# Altium schematic symbol library Schlib1.SchLib: 19 symbols
Pins are listed as number, name and electrical type; pins without a type are passive.

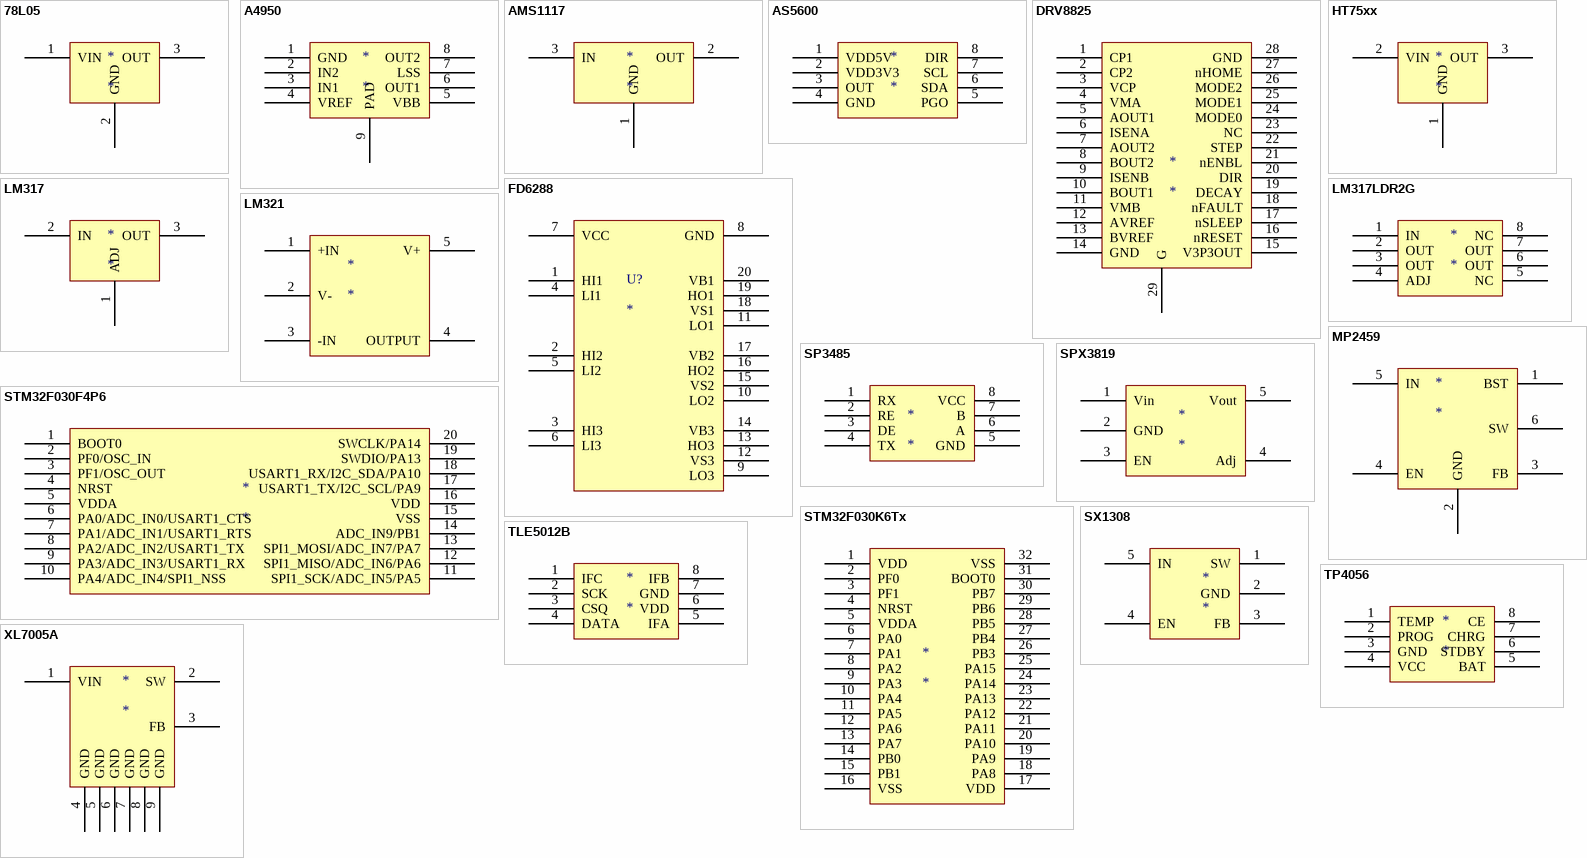
[diagram p0: symbols 78L05 to XL7005A]

## 78L05
designator *
pins: 1 VIN, 2 GND, 3 OUT

## A4950
designator *
pins: 1 GND, 2 IN2, 3 IN1, 4 VREF, 5 VBB, 6 OUT1, 7 LSS, 8 OUT2, 9 PAD

## AMS1117
designator *
pins: 1 GND, 2 OUT, 3 IN

## AS5600
designator *
pins: 1 VDD5V, 2 VDD3V3, 3 OUT, 4 GND, 5 PGO, 6 SDA, 7 SCL, 8 DIR

## DRV8825
designator *
pins: 1 CP1, 2 CP2, 3 VCP, 4 VMA, 5 AOUT1, 6 ISENA, 7 AOUT2, 8 BOUT2, 9 ISENB, 10 BOUT1, 11 VMB, 12 AVREF, 13 BVREF, 14 GND, 15 V3P3OUT, 16 nRESET, 17 nSLEEP, 18 nFAULT, 19 DECAY, 20 DIR, 21 nENBL, 22 STEP, 23 NC, 24 MODE0, 25 MODE1, 26 MODE2, 27 nHOME, 28 GND, 29 G

## FD6288
designator U?
pins: 1 HI1, 2 HI2, 3 HI3, 4 LI1, 5 LI2, 6 LI3, 7 VCC, 8 GND, 9 LO3, 10 LO2, 11 LO1, 12 VS3, 13 HO3, 14 VB3, 15 VS2, 16 HO2, 17 VB2, 18 VS1, 19 HO1, 20 VB1

## HT75xx
designator *
pins: 1 GND, 2 VIN, 3 OUT

## LM317
designator *
pins: 1 ADJ, 2 IN, 3 OUT

## LM317LDR2G
designator *
pins: 1 IN, 2 OUT, 3 OUT, 4 ADJ, 5 NC, 6 OUT, 7 OUT, 8 NC

## LM321
designator *
pins: 1 +IN, 2 V-, 3 -IN, 4 OUTPUT, 5 V+

## MP2459
designator *
pins: 1 BST, 2 GND, 3 FB, 4 EN, 5 IN, 6 SW

## SP3485
designator *
pins: 1 RX, 2 RE, 3 DE, 4 TX, 5 GND, 6 A, 7 B, 8 VCC

## SPX3819
designator *
pins: 1 Vin, 2 GND, 3 EN, 4 Adj, 5 Vout

## STM32F030F4P6
designator *
pins: 1 BOOT0, 2 PF0/OSC_IN, 3 PF1/OSC_OUT, 4 NRST, 5 VDDA, 6 PA0/ADC_IN0/USART1_CTS, 7 PA1/ADC_IN1/USART1_RTS, 8 PA2/ADC_IN2/USART1_TX, 9 PA3/ADC_IN3/USART1_RX, 10 PA4/ADC_IN4/SPI1_NSS, 11 SPI1_SCK/ADC_IN5/PA5, 12 SPI1_MISO/ADC_IN6/PA6, 13 SPI1_MOSI/ADC_IN7/PA7, 14 ADC_IN9/PB1, 15 VSS, 16 VDD, 17 USART1_TX/I2C_SCL/PA9, 18 USART1_RX/I2C_SDA/PA10, 19 SWDIO/PA13, 20 SWCLK/PA14

## STM32F030K6Tx
designator *
pins: 1 VDD, 2 PF0, 3 PF1, 4 NRST, 5 VDDA, 6 PA0, 7 PA1, 8 PA2, 9 PA3, 10 PA4, 11 PA5, 12 PA6, 13 PA7, 14 PB0, 15 PB1, 16 VSS, 17 VDD, 18 PA8, 19 PA9, 20 PA10, 21 PA11, 22 PA12, 23 PA13, 24 PA14, 25 PA15, 26 PB3, 27 PB4, 28 PB5, 29 PB6, 30 PB7, 31 BOOT0, 32 VSS

## SX1308
designator *
pins: 1 SW, 2 GND, 3 FB, 4 EN, 5 IN

## TLE5012B
designator *
pins: 1 IFC, 2 SCK, 3 CSQ, 4 DATA, 5 IFA, 6 VDD, 7 GND, 8 IFB

## TP4056
designator *
pins: 1 TEMP, 2 PROG, 3 GND, 4 VCC, 5 BAT, 6 STDBY, 7 CHRG, 8 CE

## XL7005A
designator *
pins: 1 VIN, 2 SW, 3 FB, 4 GND, 5 GND, 6 GND, 7 GND, 8 GND, 9 GND